# Altium schematic symbol library SCH - POWER - SWITCHMODE - TI TPS55383_PWP_16.SchLib: 1 symbol
Pins are listed as number, name and electrical type; pins without a type are passive.

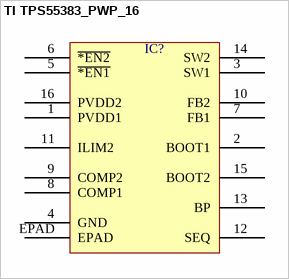
[diagram p0: symbol TI TPS55383_PWP_16]

## TI TPS55383_PWP_16
designator IC?  (value not drawn)
pins: 1 PVDD1, 2 BOOT1, 3 SW1, 4 GND, 5 ~{*EN1}, 6 ~{*EN2}, 7 FB1, 8 COMP1, 9 COMP2, 10 FB2, 11 ILIM2, 12 SEQ, 13 BP, 14 SW2, 15 BOOT2, 16 PVDD2, EPAD